# EAGLE library part 525ПС3 (library 525)
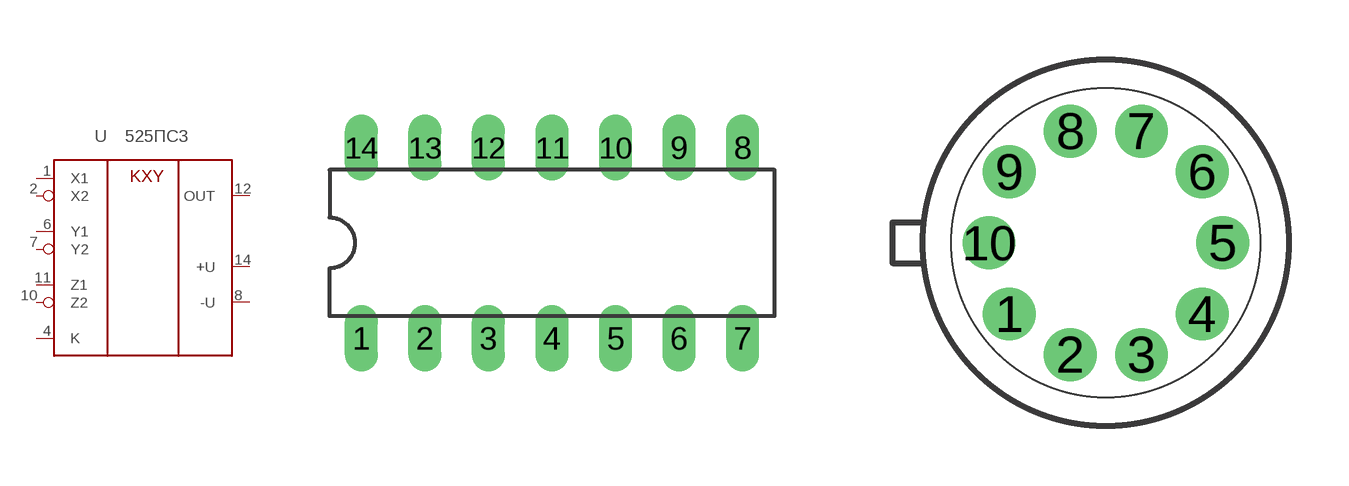
[diagram p1: symbol with the pads of DIL14; footprints DIL14, TO100]

Designator prefix -

## 525ПС3A  [DIL14]
1  X1  in
2  X2  in
4  K  in
6  Y1  in
7  Y2  in
8  -U  pwr
10  Z2  in
11  Z1  in
12  OUT  out
14  +U  pwr

## 525ПС3  [TO100]
1  X2  in
2  K  in
3  Y1  in
4  Y2  in
5  -U  pwr
6  Z2  in
7  Z1  in
8  OUT  out
9  +U  pwr
10  X1  in

## Footprint DIL14 (pad centres in mm)
Dual In Line Package
drill 0.813 long: 1 -7.62,-3.81; 2 -5.08,-3.81; 3 -2.54,-3.81; 4 0,-3.81; 5 2.54,-3.81; 6 5.08,-3.81; 7 7.62,-3.81; 8 7.62,3.81; 9 5.08,3.81; 10 2.54,3.81; 11 0,3.81; 12 -2.54,3.81; 13 -5.08,3.81; 14 -7.62,3.81

## Footprint TO100 (pad centres in mm)
Metal Can Package
drill 0.813: 1 -2.413,-1.778; 2 -0.889,-2.794; 3 0.889,-2.794; 4 2.413,-1.778; 5 2.921,0; 6 2.413,1.778; 7 0.889,2.794; 8 -0.889,2.794; 9 -2.413,1.778; 10 -2.921,0